# Altium integrated library CLA1A-WKW-CXAYB153.IntLib: 1 symbol
Pins are listed as number, name and electrical type; pins without a type are passive.

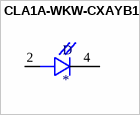
[diagram p0: symbol CLA1A-WKW-CXAYB153]

## CLA1A-WKW-CXAYB153
designator D
LED Lighting - White, Cool 5500K 3.6V 30mA 4-PLCC; MF: Cree Inc.; MP: CLA1A-WKW-CXAYB153; SnapEDA_Link: https://www.snapeda.com/parts/CLA1A-WKW-CXAYB153/Cree%20Inc./view-part/1050629/?ref=snap; Digi-Key_Purchase_URL: https://www.digikey.com/product-detail/en/cree-inc/CLA1A-WKW-CXAYB153/CLA1A-WKW-CXAYB153CT-ND/3659978?utm_source=snapeda&utm_medium=aggregator&utm_campaign=symbol; Value: *; Package: PLCC-4 Cree; Digi-Key_Part_Number: CLA1A-WKW-CXAYB153CT-ND
footprint SOJ150P350X210-4N
pins: 2 A, 4 C